# Altium footprint library Passives.PcbLib: 72 footprints (part 4 of 5)
Each footprint in its own frame and in the unit in brackets; x right, y up, seen from the top. Pads: shape width x height; smd on the part's side, far side on the other; paste and mask are expansions set on the pad; w line width, h text height; cw(c..) or ccw(c..) is an arc to the next point about the centre after c.
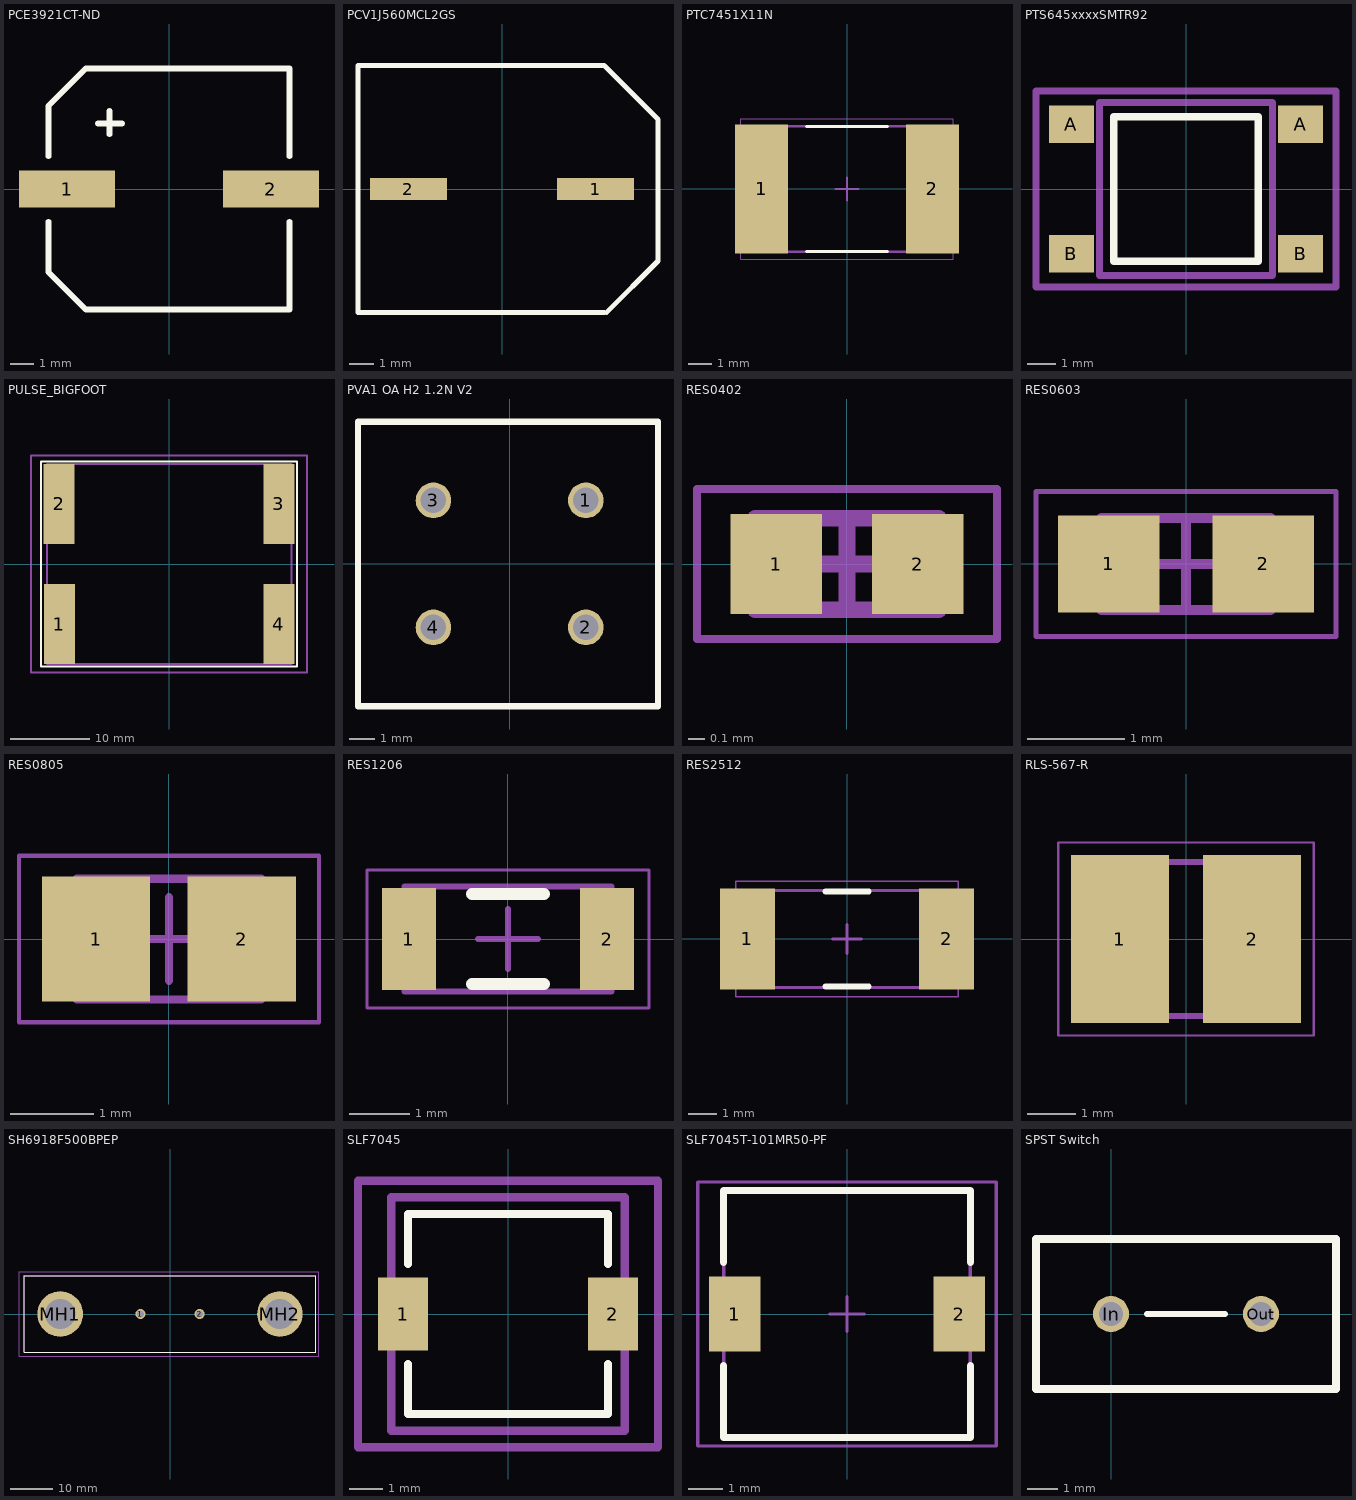
[diagram p3: the footprints below, top view; thin cyan lines are the x and y axes]

## PCE3921CT-ND [mm] "CAP ALUM 220UF 20% 50V SMD"
height 10.2
pads (2):
  rect 4.1x1.6 smd: 1(-4.35,0) 2(4.35,0)
Top Overlay:
  lines w0.254: -5.15,-1.397 -5.15,-3.539 -3.539,-5.15 5.15,-5.15 5.15,-1.397 ; -5.15,1.397 -5.15,3.539 -3.539,5.15 5.15,5.15 5.15,1.397 ; -3.023,2.794 -2.007,2.794 ; -2.54,2.337 -2.54,3.327
3D body "CAP_EEE_G.stp": height 10.54, standoff 0, extent -5.994,-5.245 5.994,5.245

## PCV1J560MCL2GS [mm]
pads (2):
  rect 3.2x0.9 smd: 1(3.9,0) 2(-3.9,0)
Top Overlay:
  lines w0.2: 4.25,-5.15 -6,-5.15 -6,-1.55 -6,5.15 4.25,5.15 6.5,2.9 6.5,-3 4.35,-5.15

## PTC7451X11N [mm] "Chip PTC, 2920, 7351 metric 2-Leads, Body 7.36x5.12mm, IPC Medium Density"
height 1.15
pads (2):
  rect 2.3x5.6 smd: 1(-3.7,0) 2(3.7,0)
Top Overlay:
  lines w0.127: -1.75,-2.7 1.75,-2.7 ; -1.75,2.7 1.75,2.7
Mechanical 13:
  lines w0.1: -3.99,-2.72 -3.99,2.72 3.99,2.72 3.99,-2.72 -3.99,-2.72
Mechanical 15:
  lines w0.05: -4.6,-3.05 -4.6,3.05 4.6,3.05 4.6,-3.05 -4.6,-3.05
  lines w0.1: -0.5,0 0.5,0 ; 0,-0.5 0,0.5
3D body: height 1.15, standoff 0, extent -3.14,-2.72 3.14,2.72
3D body: height 1.15, standoff 0, extent -3.99,-2.72 -3.14,2.72
3D body: height 1.15, standoff 0, extent 3.14,-2.72 3.99,2.72

## PTS645xxxxSMTR92 [mm] "PTS645 Series SMT 6 mm Tactile Switch"
height 3.6
pads (4):
  rect 1.555x1.3 smd: A(-3.975,2.25) A(3.975,2.25) B(-3.975,-2.25) B(3.975,-2.25)
Top Overlay:
  lines w0.254: -2.5,-2.5 -2.5,2.5 2.5,2.5 2.5,-2.5 -2.5,-2.5
Mechanical 13:
  lines w0.254: -3,-3 3,-3 3,3 -3,3 -3,-3
Mechanical 15:
  lines w0.254: -5.2,-3.4 -5.2,3.4 5.2,3.4 5.2,-3.4 -5.2,-3.4
3D body: height 4.5, standoff 0, extent -3,-3 3,3

## PULSE_BIGFOOT [mm] "SMT Power Inductor"
pads (4):
  rect 3.94x10.16 smd: 1(-13.93,-7.62) 2(-13.96,7.62) 3(13.93,7.62) 4(13.93,-7.62)
Top Overlay:
  lines w0.254: 16.25,3 16.25,13 ; 16.25,13 -16.25,13 -16.25,-13 16.25,-13 16.25,13
Mechanical 13:
  lines w0.254: 15.495,-12.7 15.495,12.7 ; 15.495,-12.7 15.495,12.7 ; 15.495,-12.7 -15.495,-12.7 -15.495,12.7 15.495,12.7
Mechanical 15:
  lines w0.254: -17.5,-13.75 -17.5,13.75 -17.25,13.75 17.5,13.75 17.5,-13.75 -17.5,-13.75
3D body: height 12.7, standoff 0, extent -15.495,-12.7 15.495,12.7

## PVA1 OA H2 1.2N V2 [mm]
pads (4):
  round 1.4 hole 1: 1(3,2.5) 2(3,-2.5) 3(-3,2.5) 4(-3,-2.5)
Top Overlay:
  lines w0.254: -5.969,-5.6 -5.969,5.588 -1.778,5.588 5.842,5.588 5.842,-5.6 -5.969,-5.6
3D body: height 16, standoff 0, extent -4.572,-4.572 4.572,4.572

## RES0402 [mm] "Chip Resistor, 2-Leads, Body 1.00x0.50mm, changed from previous"
height 0.4
pads (2):
  rect 0.55x0.6 smd: 1(-0.425,0) 2(0.425,0)
Mechanical 13:
  lines w0.1: -0.55,-0.275 -0.55,0.275 0.55,0.275 0.55,-0.275 -0.55,-0.275
Mechanical 15:
  lines w0.05: -0.9,-0.45 -0.9,0.45 0.9,0.45 0.9,-0.45 -0.9,-0.45
  lines w0.1: -0.275,0 0.275,0 ; 0,-0.275 0,0.275
3D body: height 0.4, standoff 0, extent -0.3,-0.275 0.3,0.275
3D body: height 0.4, standoff 0, extent -0.55,-0.275 -0.3,0.275
3D body: height 0.4, standoff 0, extent 0.3,-0.275 0.55,0.275

## RES0603 [mm] "Chip Resistor, 2-Leads, Body 1.60x0.80mm, IPC Medium Density"
height 0.8
pads (2):
  rect 1.05x1 smd: 1(-0.8,0) 2(0.8,0)
Mechanical 13:
  lines w0.1: -0.875,-0.475 0.875,-0.475 0.875,0.475 -0.875,0.475 -0.875,-0.475
Mechanical 15:
  lines w0.05: -1.55,-0.75 1.55,-0.75 1.55,0.75 -1.55,0.75 -1.55,-0.75
  lines w0.1: -0.475,0 0.475,0 ; 0,-0.475 0,0.475
3D body: height 0.8, standoff 0, extent 0.525,-0.475 0.875,0.475
3D body: height 0.8, standoff 0, extent -0.875,-0.475 -0.525,0.475
3D body: height 0.8, standoff 0, extent -0.525,-0.475 0.525,0.475

## RES0805 [mm] "Chip Resistor, 2-Leads, Body 2.01x1.25mm, IPC Medium Density"
height 1.8
pads (2):
  rect 1.3x1.5 smd: 1(-0.875,0) 2(0.875,0)
Mechanical 13:
  lines w0.1: -1.105,-0.725 1.105,-0.725 1.105,0.725 -1.105,0.725 -1.105,-0.725
Mechanical 15:
  lines w0.05: -1.8,-1 1.8,-1 1.8,1 -1.8,1 -1.8,-1
  lines w0.1: -0.5,0 0.5,0 ; 0,-0.5 0,0.5
3D body: height 1.8, standoff 0, extent 0.605,-0.725 1.105,0.725
3D body: height 1.8, standoff 0, extent -1.105,-0.725 -0.605,0.725
3D body: height 1.8, standoff 0, extent -0.605,-0.725 0.605,0.725

## RES1206 [mm] "Chip Resistor, 2-Leads, Body 3.20x1.60mm, IPC Medium Density"
height 0.7
pads (2):
  rect 0.9x1.7 smd: 1(-1.65,0) 2(1.65,0)
Top Overlay:
  lines w0.2: -0.6,-0.75 0.6,-0.75 ; -0.6,0.75 0.6,0.75
Mechanical 13:
  lines w0.1: -1.725,-0.875 -1.725,0.875 1.725,0.875 1.725,-0.875 -1.725,-0.875
Mechanical 15:
  lines w0.05: -2.35,-1.15 -2.35,1.15 2.35,1.15 2.35,-1.15 -2.35,-1.15
  lines w0.1: -0.5,0 0.5,0 ; 0,-0.5 0,0.5
3D body: height 0.7, standoff 0, extent -1.375,-0.875 1.375,0.875
3D body: height 0.7, standoff 0, extent -1.725,-0.875 -1.375,0.875
3D body: height 0.7, standoff 0, extent 1.375,-0.875 1.725,0.875

## RES2512 [mm] "Chip Resistor, 2-Leads, Body 6.35x3.20mm, IPC Medium Density"
height 0.65
pads (2):
  rect 1.9x3.5 smd: 1(-3.45,0) 2(3.45,0)
Top Overlay:
  lines w0.2: -0.75,-1.65 0.75,-1.65 ; -0.75,1.65 0.75,1.65
Mechanical 13:
  lines w0.1: -3.225,-1.675 -3.225,1.675 3.225,1.675 3.225,-1.675 -3.225,-1.675
Mechanical 15:
  lines w0.05: -3.85,-2 -3.85,2 3.85,2 3.85,-2 -3.85,-2
  lines w0.1: -0.5,0 0.5,0 ; 0,-0.5 0,0.5
3D body: height 0.65, standoff 0, extent -1.425,-1.675 1.425,1.675
3D body: height 0.65, standoff 0, extent -3.225,-1.675 -1.425,1.675
3D body: height 0.65, standoff 0, extent 1.425,-1.675 3.225,1.675

## RLS-567-R [mm]
pads (2):
  rect 2.05x3.5 smd: 1(-1.375,0) 2(1.375,0)
Mechanical 13:
  lines w0.127: -2.25,-1.6 -2.25,1.6 ; -2.25,-1.6 2.25,-1.6 ; -2.25,-1.6 -2.25,1.6 ; -2.25,-1.6 2.25,-1.6 ; -2.25,1.6 2.25,1.6 ; -2.25,1.6 2.25,1.6 ; 2.25,-1.6 2.25,1.6 ; 2.25,-1.6 2.25,1.6
Mechanical 15:
  lines w0.05: -2.66,-2.01 -2.66,2.01 2.66,2.01 2.66,-2.01 -2.66,-2.01
3D body: height 2.6, standoff 0, extent -1.016,0.508 -1.016,0.508
3D body: height 2.6, standoff 0, extent 0,0 0,0
3D body: height 2.6, standoff 0, extent -2.54,2.032 -2.54,2.032
3D body "RLS-567-R--3DModel-STEP-1.STEP": height 2.5, standoff -0.1, extent -2.301,-1.6 2.199,1.6

## SH6918F500BPEP [mm]
pads (4):
  round 2.415 hole 1.61: 1(-7,0) 2(7,0)
  round 10.8 hole 7.2: MH1(-26,0) MH2(26,0)
Top Overlay:
  lines w0.1: -34.5,-9 -34.5,9 34.5,9 34.5,-9 -34.5,-9
Mechanical 13:
  lines w0.2: -34.5,-9 -34.5,9 34.5,9 34.5,-9 -34.5,-9
Mechanical 15:
  lines w0.1: -35.75,-10 -35.75,10 35.25,10 35.25,-10 -35.75,-10
3D body "SH6918F500BPEP.stp": height 3.3, standoff -5, extent -34.5,-9 34.5,9

## SLF7045 [mm] "Inductors for Power Circuits Wound Ferrite"
height 4.5
pads (2):
  rect 1.5x2.2 smd: 1(-3.15,0) 2(3.15,0)
Top Overlay:
  lines w0.254: -3,-1.5 -3,-3 3,-3 3,-1.5 ; -3,1.5 -3,3 3,3 3,1.5
Mechanical 13:
  lines w0.254: -3.5,-3.5 3.5,-3.5 3.5,3.5 -3.5,3.5 -3.5,-3.5
Mechanical 15:
  lines w0.254: -4.5,-4 -4.5,4 4.5,4 4.5,-4 -4.5,-4
3D body: height 4.5, standoff 0, extent -3.5,-3.5 3.5,3.5

## SLF7045T-101MR50-PF [mm] "INDUCTOR SHIELD PWR 100UH 7045"
height 4.8
pads (2):
  rect 1.5x2.2 smd: 1(-3.275,0) 2(3.275,0)
Top Overlay:
  lines w0.2: -3.6,-1.5 -3.6,-3.6 3.6,-3.6 3.6,-1.5 ; -3.6,1.5 -3.6,3.6 3.6,3.6 3.6,1.5
Mechanical 13:
  lines w0.1: -3.6,-3.6 -3.6,3.6 3.6,3.6 3.6,-3.6 -3.6,-3.6
Mechanical 15:
  lines w0.1: -0.5,0 0.5,0 ; 0,-0.5 0,0.5 ; -4.35,-3.85 -4.35,3.85 4.35,3.85 4.35,-3.85 -4.35,-3.85
3D body: height 4.8, standoff 0, extent -3.6,-3.6 3.6,3.6

## SPST Switch [mm]
pads (2):
  round 1.2 hole 0.8: In(0,0) Out(5,0)
Top Overlay:
  lines w0.2: 1.2,0 3.775,0 ; 1.225,0 3.8,0
  lines w0.254: -2.5,-2.5 -2.5,2.5 7.5,2.5 7.5,-2.5 -2.5,-2.5